# Altium footprint library Discrete.PcbLib: 51 footprints (part 4 of 4)
Each footprint in its own frame and in the unit in brackets; x right, y up, seen from the top. Pads: shape width x height; smd on the part's side, far side on the other; paste and mask are expansions set on the pad; w line width, h text height; cw(c..) or ccw(c..) is an arc to the next point about the centre after c.
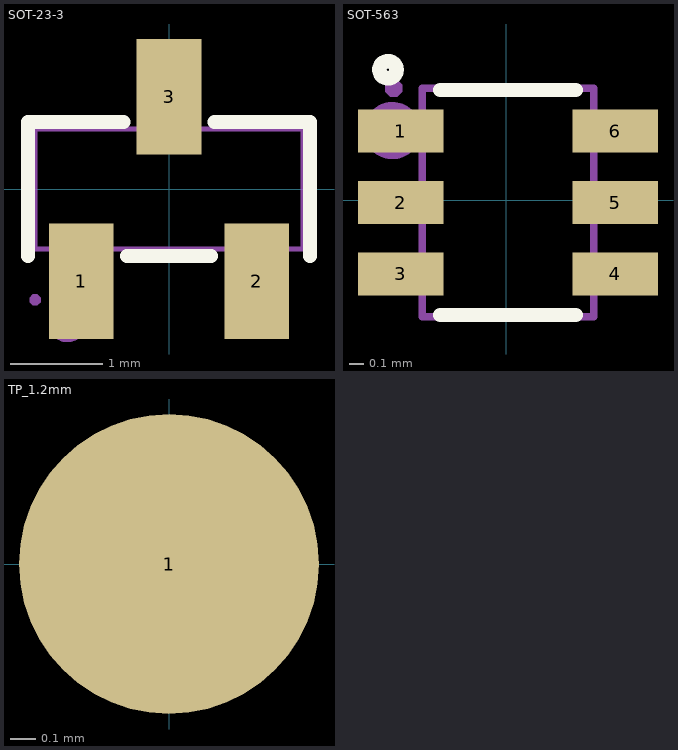
[diagram p3: the footprints below, top view; thin cyan lines are the x and y axes]

## SOT-23-3 [mm]
pads (3):
  rect 0.7x1.25 smd: 1(-0.95,-1) 2(0.95,-1) 3(0,1)
Top Overlay:
  lines w0.152: -1.526,-0.726 -1.526,0.726 -0.495,0.726 ; -0.455,-0.726 0.455,-0.726 ; 0.495,0.726 1.526,0.726 1.526,-0.726
Mechanical 6:
  circle w0.2: c-1.1,-1.46 r0.1
Mechanical 15:
  region: -1.45,-1.26 -1.426,-1.259 -1.392,-1.224 -1.392,-1.176 -1.426,-1.141 -1.45,-1.14 -1.474,-1.141 -1.508,-1.176 -1.508,-1.224 -1.474,-1.259
  region: 0.735,-0.64 1.165,-0.64 1.165,-0.91 0.735,-0.91
  region: 0.735,-0.9 1.165,-0.9 1.165,-1.2 0.735,-1.2
  region: -1.165,-0.64 -0.735,-0.64 -0.735,-0.91 -1.165,-0.91
  region: -1.165,-0.9 -0.735,-0.9 -0.735,-1.2 -1.165,-1.2
  region: -0.215,0.91 0.215,0.91 0.215,0.64 -0.215,0.64
  region: -0.215,1.2 0.215,1.2 0.215,0.9 -0.215,0.9
  lines w0.051: -1.45,-0.65 1.45,-0.65 1.45,0.65 -1.45,0.65 -1.45,-0.65
3D body "SOT-23-3.step": height 1.45, standoff 0, extent -1.575,-1.5 1.525,1.5

## SOT-563 [mm]
pads (6):
  rect 0.6x0.3 smd: 1(-0.738,0.483) 2(-0.738,-0.017) 3(-0.738,-0.517) 4(0.762,-0.517) 5(0.762,-0.017) 6(0.762,0.483)
Top Overlay:
  circle w0.102: c-0.828,0.913 r0.06
  lines w0.1: -0.463,-0.805 0.487,-0.805 ; -0.463,0.77 0.487,0.77
Mechanical 6:
  circle w0.2: c-0.798,0.486 r0.1
Mechanical 15:
  region: 0.511,0.383 0.511,0.583 0.811,0.583 0.811,0.383
  region: 0.511,-0.617 0.511,-0.417 0.811,-0.417 0.811,-0.617
  region: -0.787,0.383 -0.787,0.583 -0.487,0.583 -0.487,0.383
  region: -0.787,-0.617 -0.787,-0.417 -0.487,-0.417 -0.487,-0.617
  region: -0.787,-0.117 -0.787,0.083 -0.487,0.083 -0.487,-0.117
  region: 0.511,-0.117 0.511,0.083 0.811,0.083 0.811,-0.117
  region: -0.847,0.782 -0.847,0.758 -0.812,0.723 -0.763,0.723 -0.727,0.758 -0.727,0.782 -0.727,0.807 -0.763,0.842 -0.812,0.842 -0.847,0.807
  lines w0.051: -0.588,-0.817 0.612,-0.817 0.612,0.783 -0.588,0.783 -0.588,-0.817
3D body "SOT563.STEP": height 0.5, standoff -0.05, extent -0.789,-0.818 0.811,0.782

## TP_1.2mm [mm] "1.2mm Round Testpoint. (Industry standard size)"
pads (1):
  round 1.2 smd paste+0 mask-0.102: 1(0,0)